# Altium footprint library CAPS.PcbLib: 30 footprints (part 1 of 2)
Each footprint in its own frame and in the unit in brackets; x right, y up, seen from the top. Pads: shape width x height; smd on the part's side, far side on the other; paste and mask are expansions set on the pad; w line width, h text height; cw(c..) or ccw(c..) is an arc to the next point about the centre after c.
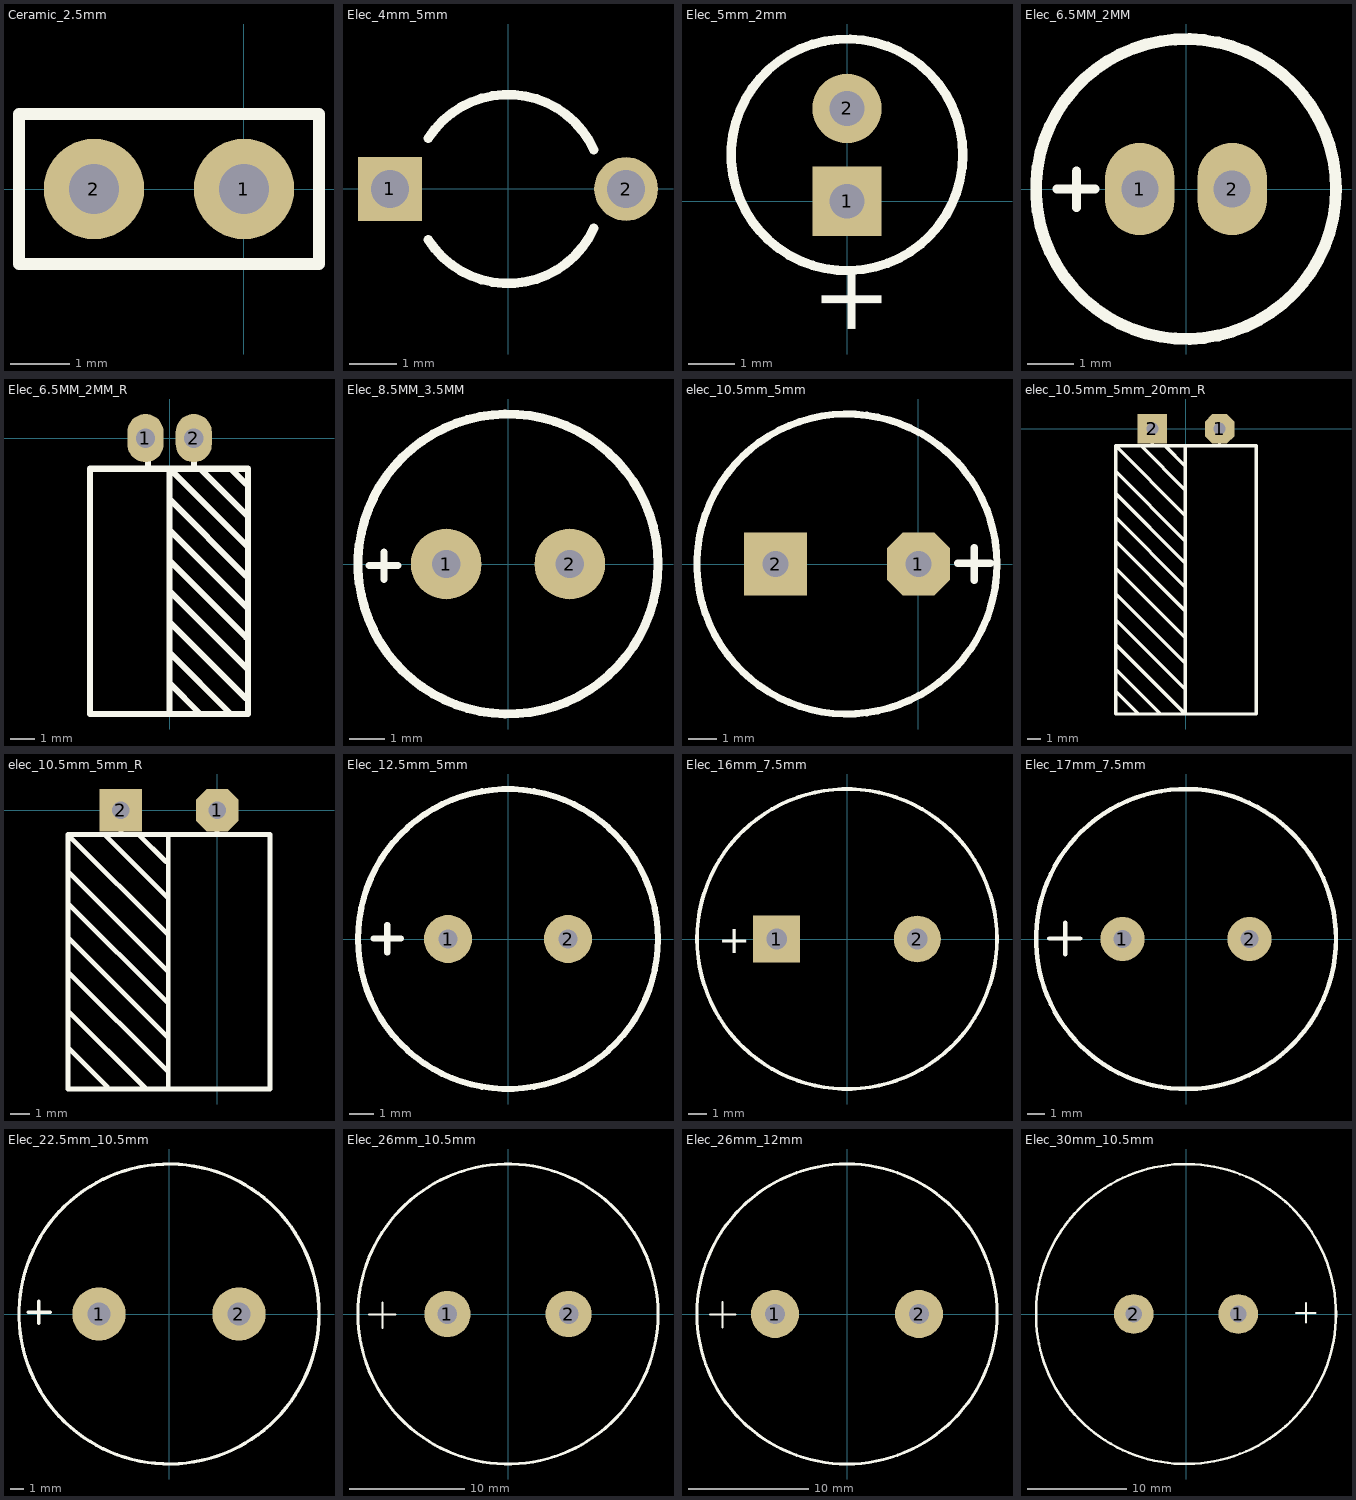
[diagram p0: the footprints below, top view; thin cyan lines are the x and y axes]

## Ceramic_2.5mm [mm]
pads (2):
  round 1.7 hole 0.85: 1(0,0) 2(-2.54,0)
Top Overlay:
  lines w0.2: -3.81,-1.27 -3.81,1.27 1.27,1.27 1.27,-1.27 -3.81,-1.27

## Elec_4mm_5mm [mm]
pads (2):
  rect 1.35x1.35 hole 0.8: 1(-2.5,0)
  round 1.35 hole 0.8: 2(2.5,0)
Top Overlay:
  lines w0.2: -1.687,-1.075 ccw(c0,0) 1.819,-0.832 ; -1.687,1.075 cw(c0,0) 1.819,0.832

## Elec_5mm_2mm [mm]
pads (2):
  rect 1.5x1.5 hole 0.75: 1(0,0)
  round 1.5 hole 0.75: 2(0,2)
Top Overlay:
  circle w0.2: c0,1 r2.5
  text "+" at 0.75,-2.975 h1.5

## Elec_6.5MM_2MM [mm]
pads (2):
  oval 1.5x2 hole 0.8: 1(-1,0) 2(1,0)
Top Overlay:
  circle w0.254: c0,0 r3.25
  lines w0.2: -2.794,0 -1.972,0 ; -2.37,-0.403 -2.37,0.387

## Elec_6.5MM_2MM_R [mm]
pads (2):
  oval 1.5x2 hole 0.8: 1(-1,0) 2(1,0)
Top Overlay:
  lines w0.254: -1,0 -0.889,0 -0.889,-1.27 ; 0,-11.43 0,-1.27 3.25,-4.52 ; 0,-10.16 1.27,-11.43 ; 0,-8.89 2.54,-11.43 ; 0,-7.62 3.175,-10.795 ; 0,-6.35 3.25,-9.6 ; 0,-5.08 3.175,-8.255 ; 0,-3.81 3.175,-6.985 ; 0,-2.54 3.175,-5.715 ; 1.016,-1.27 1.016,0 ; 1.27,-1.27 3.25,-3.25 ; 2.54,-1.27 3.175,-1.905 ; 1.016,0 1,0 1.016,0 ; -3.302,-11.43 -3.302,-1.27 3.25,-1.27 3.25,-11.43 -3.302,-11.43

## Elec_8.5MM_3.5MM [mm]
pads (2):
  round 2 hole 0.8: 1(-1.75,0) 2(1.75,0)
Top Overlay:
  circle w0.254: c0,0 r4.25
  lines w0.2: -3.943,-0.042 -3.121,-0.042 ; -3.519,-0.445 -3.519,0.345

## elec_10.5mm_5mm [mm]
pads (2):
  oct 2.2x2.2 hole 0.9: 1(0,0)
  rect 2.2x2.2 hole 0.9: 2(-5,0)
Top Overlay:
  circle w0.25: c-2.5,0 r5.25
  lines w0.254: 1.379,0.027 2.522,0.027 ; 1.954,-0.565 1.954,0.578
Mechanical 1:
  circle w0.02: c-2.5,0 r5.25

## elec_10.5mm_5mm_20mm_R [mm]
pads (2):
  oct 2.2x2.2 hole 0.9: 1(2.5,0)
  rect 2.2x2.2 hole 0.9: 2(-2.5,0)
Top Overlay:
  lines w0.254: -5.247,-19.558 -3.596,-21.209 ; -5.247,-12.319 -0.103,-17.462 ; -5.247,-10.414 -0.103,-15.557 ; -5.247,-8.382 -0.04,-13.589 ; -5.247,-6.604 -0.04,-11.811 ; -5.247,-4.826 -0.04,-10.033 ; -5.247,-3.175 -0.04,-8.382 ; -5.183,-17.97 -1.945,-21.209 ; -5.183,-16.127 -0.04,-21.27 -0.04,-1.27 ; -5.183,-14.287 -0.04,-19.431 ; -3.342,-1.27 -0.04,-4.572 ; -2.5,-1.27 -2.5,0 ; -1.564,-1.27 -0.04,-2.794 ; -0.04,-6.477 -5.247,-1.27 ; 2.5,-1.27 2.5,0 ; -5.247,-1.27 5.25,-1.27 5.25,-21.27 -5.247,-21.27 -5.247,-1.27

## elec_10.5mm_5mm_R [mm]
pads (2):
  oct 2.2x2.2 hole 0.9: 1(0,0)
  rect 2.2x2.2 hole 0.9: 2(-5,0)
Top Overlay:
  lines w0.254: -7.747,-12.319 -5.715,-14.351 ; -7.747,-10.414 -3.683,-14.478 ; -7.747,-8.382 -2.54,-13.589 ; -7.747,-6.604 -2.54,-11.811 ; -7.747,-4.826 -2.54,-10.033 ; -7.747,-3.175 -2.54,-8.382 ; -5.842,-1.27 -2.54,-4.572 ; -5,-1.27 -5,0 ; -4.064,-1.27 -2.667,-2.667 ; -2.54,-14.478 -2.54,-1.27 ; -2.54,-6.477 -7.747,-1.27 ; 0,-1.27 0,0 ; -7.747,-1.27 -7.747,-14.478 2.75,-14.478 2.75,-1.27 -7.747,-1.27

## Elec_12.5mm_5mm [mm]
pads (2):
  round 2 hole 0.8: 1(-2.5,0) 2(2.5,0)
Top Overlay:
  circle w0.254: c0,0 r6.25
  lines w0.254: -5.606,0.027 -4.463,0.027 ; -5.031,-0.565 -5.031,0.578

## Elec_16mm_7.5mm [mm]
pads (2):
  rect 2.5x2.5 hole 1.1: 1(-3.75,0)
  round 2.5 hole 1.1: 2(3.75,0)
Top Overlay:
  circle w0.2: c0,0 r8
  text "+" at -6.858,-0.762 h1.5

## Elec_17mm_7.5mm [mm]
pads (2):
  round 2.5 hole 1: 1(-3.6,0) 2(3.6,0)
Top Overlay:
  circle w0.254: c0,0 r8.5
  lines w0.254: -7.759,0.028 -5.981,0.028 ; -6.844,-0.867 -6.844,0.911

## Elec_22.5mm_10.5mm [mm]
pads (2):
  round 4 hole 1.7: 1(-5.25,0) 2(5.25,0)
Top Overlay:
  circle w0.254: c0,0 r11.25
  lines w0.254: -10.568,0.142 -8.911,0.142 ; -9.755,-0.682 -9.755,0.975

## Elec_26mm_10.5mm [mm]
pads (2):
  round 4 hole 1.7: 1(-5.25,0) 2(5.25,0)
Top Overlay:
  circle w0.254: c0,0 r13
  lines w0.2: -12.032,-0.041 -9.76,-0.041 ; -10.872,-1.202 -10.872,0.974

## Elec_26mm_12mm [mm]
pads (2):
  round 4 hole 1.7: 1(-6,0) 2(6,0)
Top Overlay:
  circle w0.254: c0,0 r12.5
  lines w0.2: -11.393,-0.045 -9.3,-0.045 ; -10.377,-1.109 -10.377,0.984

## Elec_30mm_10.5mm [mm]
pads (2):
  round 4 hole 1.7: 1(5.275,0) 2(-5.275,0)
Top Overlay:
  circle w0.254: c0,0 r15.15
  lines w0.2: 11.125,0.107 13.075,0.107 ; 12.123,-0.86 12.123,1.09